# EAGLE library part RJ45-10G-BASE (library ds_con)
1 Port RJ45 Magjack Connector Through Hole 10G Base-T, AutoMDIX
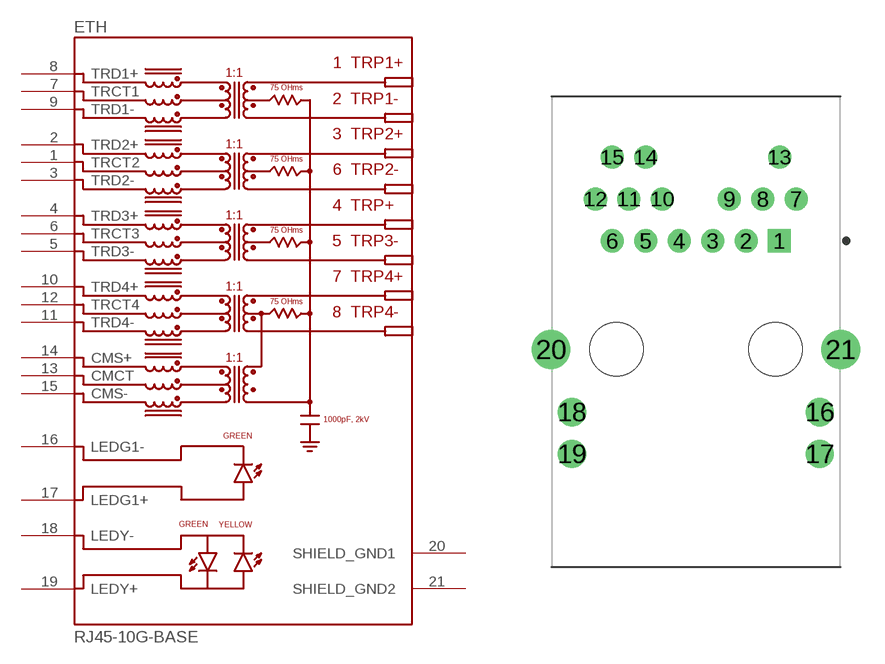
[diagram p39: symbol with the pads of RJ45-10G-BASE; footprint RJ45-10G-BASE]

Designator prefix ETH

## RJ45-10G-BASE (DATASHEET: https://www.mouser.at/datasheet/3/508/1/J425.pdf; DESCRIPTION: 1 Port RJ45 Magjack Connector Through Hole 10G Base-T, AutoMDIX; HQ_PART: CO1192871; LCSC_PART: C455440; MANUFACTURER: Pulse Electronics; MPN: JT4-1108HL; ROHS: YES)  [RJ45-10G-BASE]
1  TRCT2  pas
2  TRD2+  pas
3  TRD2-  pas
4  TRD3+  pas
5  TRD3-  pas
6  TRCT3  pas
7  TRCT1  pas
8  TRD1+  pas
9  TRD1-  pas
10  TRD4+  pas
11  TRD4-  pas
12  TRCT4  pas
13  CMCT  pas
14  CMS+  pas
15  CMS-  pas
16  LEDG1-  pas
17  LEDG1+  pas
18  LEDY-  pas
19  LEDY+  pas
20  SHIELD_GND1  pas
21  SHIELD_GND2  pas

## Footprint RJ45-10G-BASE (pad centres in mm)
drill 0.89 square: 1 5.075,6.35
drill 0.89: 2 3.045,6.35; 3 1.015,6.35; 4 -1.015,6.35; 5 -3.045,6.35; 6 -5.075,6.35; 7 6.095,8.89; 8 4.065,8.89; 9 2.035,8.89; 10 -2.035,8.89; 11 -4.065,8.89; 12 -6.095,8.89; 13 5.08,11.43; 14 -3.05,11.43; 15 -5.08,11.43
drill 1.14: 16 7.52,-4.06; 17 7.52,-6.6; 18 -7.52,-4.06; 19 -7.52,-6.6
drill 1.57: 20 -8.79,-0.25; 21 8.79,-0.25
hole 3.25 at -4.825,-0.25
hole 3.25 at 4.825,-0.25